# EAGLE library part 25LC1024-I/P (library 25LC1024-I_P)
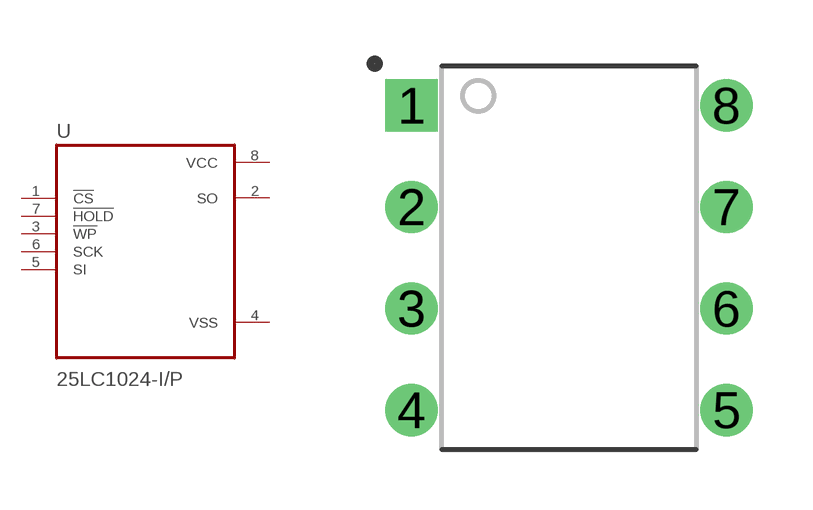
[diagram p0: symbol with the pads of DIP787W46P254L927H533Q8; footprint DIP787W46P254L927H533Q8]

Designator prefix -

## 25LC1024-I/P (Availability: Unavailable; Description: EEPROM Memory IC 1Mb (128K x 8) SPI 20MHz 8-PDIP; MF: Microchip; MP: 25LC1024-I/P; Package: DIP-8 Microchip; Price: None)  [DIP787W46P254L927H533Q8]
1  !CS  in
2  SO  out
3  !WP  in
4  VSS  pwr
5  SI  in
6  SCK  in
7  !HOLD  in
8  VCC  pwr

## Footprint DIP787W46P254L927H533Q8 (pad centres in mm)
drill 0.8 square: 1 -3.935,3.81
drill 0.8: 2 -3.935,1.27; 3 -3.935,-1.27; 4 -3.935,-3.81; 5 3.935,-3.81; 6 3.935,-1.27; 7 3.935,1.27; 8 3.935,3.81